# Altium footprint library MainPcblib.PcbLib: 316 footprints (part 16 of 20)
Each footprint in its own frame and in the unit in brackets; x right, y up, seen from the top. Pads: shape width x height; smd on the part's side, far side on the other; paste and mask are expansions set on the pad; w line width, h text height; cw(c..) or ccw(c..) is an arc to the next point about the centre after c.
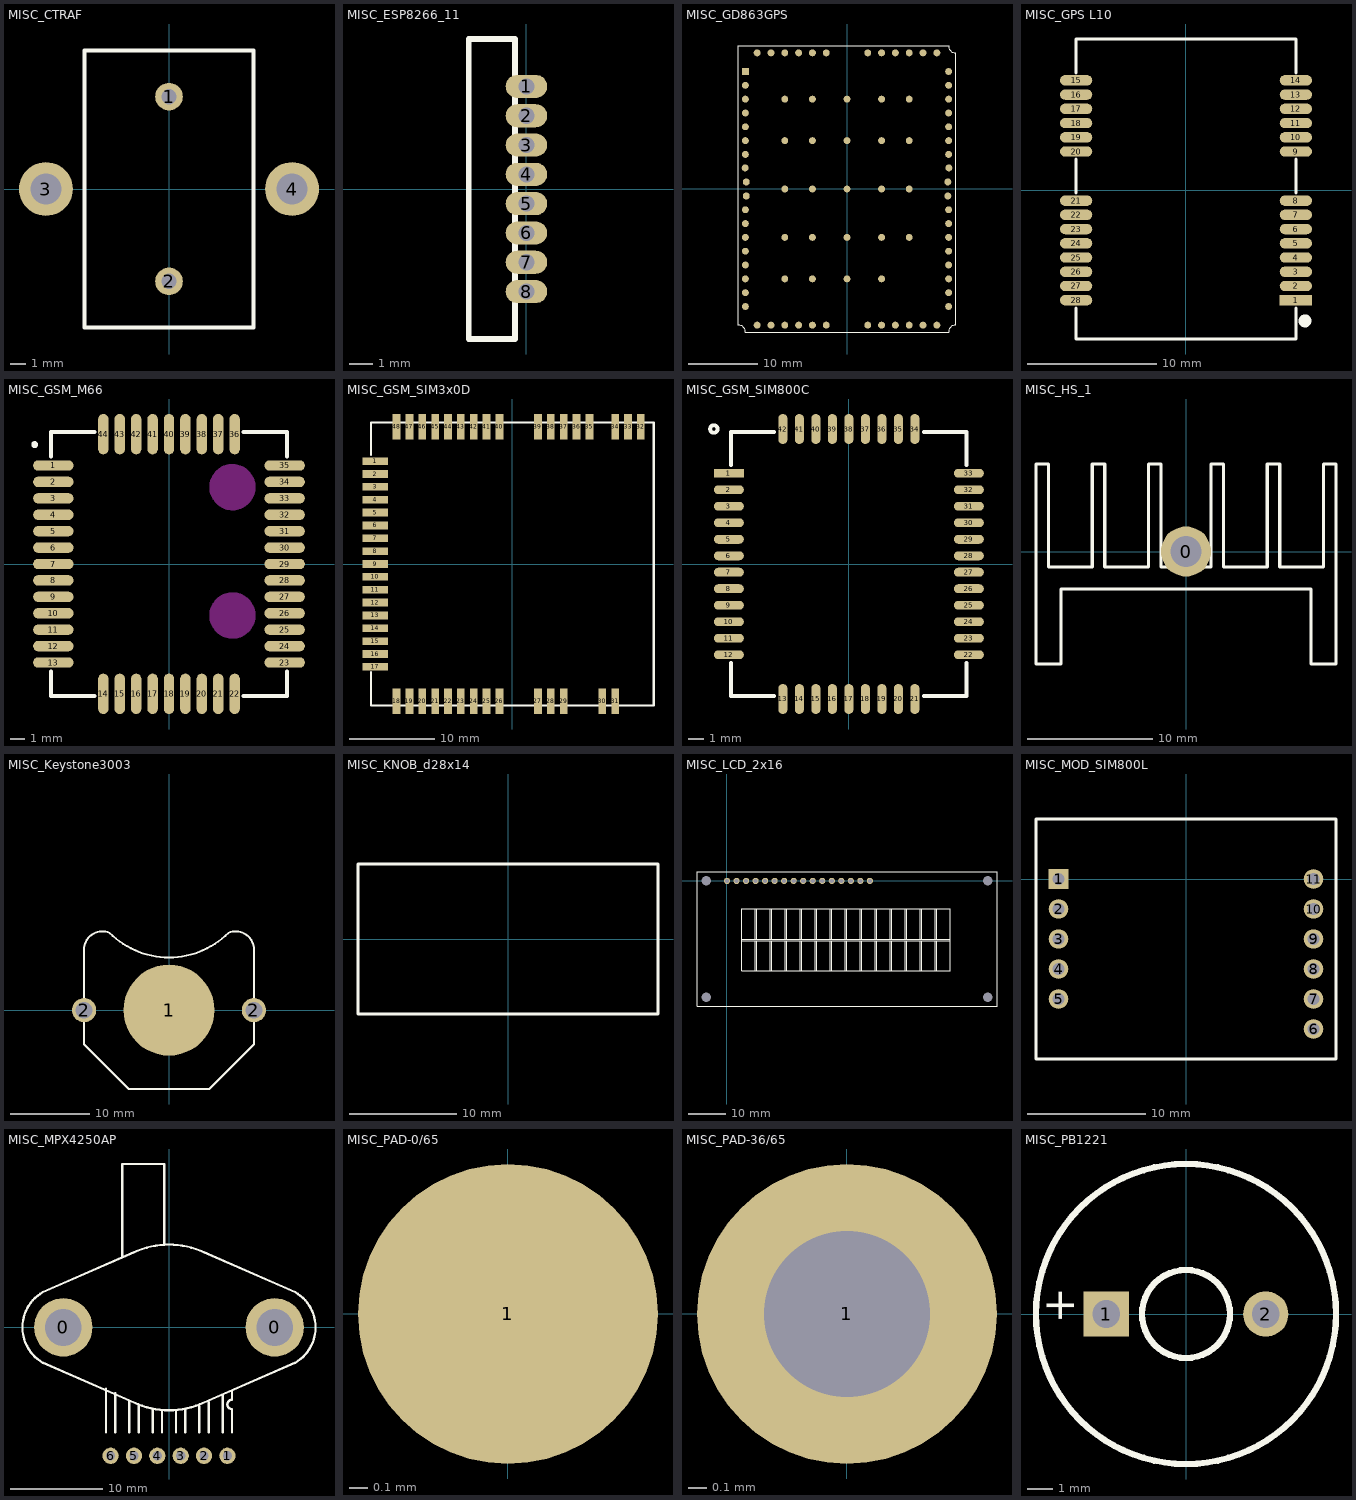
[diagram p15: the footprints below, top view; thin cyan lines are the x and y axes]

## MISC_CTRAF [mm] "Current transformer"
pads (4):
  round 1.8 hole 1: 1(0,6) 2(0,-6)
  round 3.5 hole 2: 3(-8,0) 4(8,0)
Top Overlay:
  lines w0.254: -5.5,-9 -5.5,9 5.5,9 5.5,-9 -5.5,-9

## MISC_ESP8266_11 [mm] "wifi module"
pads (8):
  oval 1.8x1 hole 0.7: 1(0,4.445) 2(0,3.175) 3(0,1.905) 4(0,0.635) 5(0,-0.635) 6(0,-1.905) 7(0,-3.175) 8(0,-4.445)
Top Overlay:
  lines w0.254: -1.5,-6.5 -0.5,-6.5 -0.5,6.5 -2.5,6.5 -2.5,-6.5 -1,-6.5

## MISC_GD863GPS [mm]
pads (84):
  rect 1x1 smd: 1(-14.748,16.985)
  round 1 smd: 2(-14.748,14.985) 3(-14.748,12.985) 4(-14.748,10.985) 5(-14.748,8.985) 6(-14.748,6.985) 7(-14.748,4.985) 8(-14.78,3.033) 9(-14.748,-3.015) 10(-14.748,-5.015) 11(-14.748,-7.015) 12(-14.748,-9.015) 13(-14.748,-11.015) 14(-14.748,-13.015) 15(-14.748,-15.015) 16(-14.748,-17.015) 17(-13.048,-19.715) 18(-11.048,-19.715) 19(-9.048,-19.715) 20(-7.048,-19.715) 21(-5.048,-19.715) 22(-3.048,-19.715) 23(2.952,-19.715) 24(4.952,-19.715) 25(6.952,-19.715) 26(8.952,-19.715) 27(10.952,-19.715) 28(12.952,-19.715) 29(14.652,-17.015) 30(14.652,-15.015) 31(14.652,-13.015) 32(14.652,-11.015) 33(14.652,-9.015) 34(14.652,-7.015) 35(14.652,-5.015) 36(14.652,-3.015) 37(14.684,3.033) 38(14.652,4.985) 39(14.652,6.985) 40(14.652,8.985) 41(14.652,10.985) 42(14.652,12.985) 43(14.652,14.985) 44(14.652,16.985) 45(12.952,19.685) 46(10.952,19.685) 47(8.952,19.685) 48(6.952,19.685) 49(4.952,19.685) 50(2.952,19.685) 51(-3.048,19.685) 52(-5.048,19.685) 53(-7.048,19.685) 54(-9.048,19.685) 55(-11.048,19.685) 56(-13.048,19.685) 57(-9.048,12.985) 58(-9.048,6.985) 59(-9.048,-0.015) 60(-9.048,-7.015) 61(-9.048,-13.015) 62(-5.048,12.985) 63(-5.048,6.985) 64(-5.048,-0.015) 65(-5.048,-7.015) 66(-5.048,-13.015) 67(-0.048,12.985) 68(-0.048,6.985) 69(-0.048,-0.015) 70(-0.048,-7.015) 71(-0.048,-13.015) 72(4.952,12.985) 73(4.952,6.985) 74(4.952,-0.015) 75(4.952,-7.015) 76(4.952,-13.015) 77(8.952,12.985) 78(8.952,6.985) 79(8.952,-0.015) 80(8.952,-7.015) 81(-14.621,1.008) 82(-14.621,-1.024) 83(14.538,-1.024) 84(14.538,1.008)
Top Overlay:
  lines w0.076: -15.748,-19.715 cw(c-15.748,-20.715) -14.748,-20.715 14.652,-20.715 cw(c15.652,-20.715) 15.652,-19.715 15.652,19.685 cw(c15.652,20.685) 14.652,20.685 -15.748,20.685 -15.748,-19.715

## MISC_GPS L10 [mm] "Quectel L10"
height 3
pads (28):
  rect 2.5x0.8 smd: 1(8.5,-8.5)
  oval 2.5x0.8 smd: 2(8.5,-7.4) 3(8.5,-6.3) 4(8.5,-5.2) 5(8.5,-4.1) 6(8.5,-3) 7(8.5,-1.9) 8(8.5,-0.8) 9(8.5,3) 10(8.5,4.1) 11(8.5,5.2) 12(8.5,6.3) 13(8.5,7.4) 14(8.5,8.5) 15(-8.5,8.5) 16(-8.5,7.4) 17(-8.5,6.3) 18(-8.5,5.2) 19(-8.5,4.1) 20(-8.5,3) 21(-8.5,-0.8) 22(-8.5,-1.9) 23(-8.5,-3) 24(-8.5,-4.1) 25(-8.5,-5.2) 26(-8.5,-6.3) 27(-8.5,-7.4) 28(-8.5,-8.5)
Top Overlay:
  circle w0.5: c9.2,-10.1 r0.25
  lines w0.254: -8.5,-9.1 -8.5,-11.5 8.5,-11.5 8.5,-9.1 ; -8.5,-0.2 -8.5,2.4 ; -8.5,9.1 -8.5,11.7 8.5,11.7 8.5,9.1 ; 8.5,-0.2 8.5,2.4

## MISC_GSM_M66 [mm] "Quectel M66 GSM Module"
height 2.3
pads (44):
  oval 2.7x0.7 smd: 1(-7.75,6.6) 2(-7.75,5.5) 3(-7.75,4.4) 4(-7.75,3.3) 5(-7.75,2.2) 6(-7.75,1.1) 7(-7.75,0) 8(-7.75,-1.1) 9(-7.75,-2.2) 10(-7.75,-3.3) 11(-7.75,-4.4) 12(-7.75,-5.5) 13(-7.75,-6.6) 23(7.75,-6.6) 24(7.75,-5.5) 25(7.75,-4.4) 26(7.75,-3.3) 27(7.75,-2.2) 28(7.75,-1.1) 29(7.75,0) 30(7.75,1.1) 31(7.75,2.2) 32(7.75,3.3) 33(7.75,4.4) 34(7.75,5.5) 35(7.75,6.6)
  oval 0.7x2.7 smd: 14(-4.4,-8.7) 15(-3.3,-8.7) 16(-2.2,-8.7) 17(-1.1,-8.7) 18(0,-8.7) 19(1.1,-8.7) 20(2.2,-8.7) 21(3.3,-8.7) 22(4.4,-8.7) 36(4.4,8.7) 37(3.3,8.7) 38(2.2,8.7) 39(1.1,8.7) 40(0,8.7) 41(-1.1,8.7) 42(-2.2,8.7) 43(-3.3,8.7) 44(-4.4,8.7)
Top Overlay:
  circle w0.254: c-9,8 r0.1
  lines w0.254: -7.9,-7.2 -7.9,-8.85 -5,-8.85 ; -7.9,7.2 -7.9,8.85 -5,8.85 ; 5,-8.85 7.9,-8.85 7.9,-7.2 ; 5,8.85 7.9,8.85 7.9,7.2
Keep-Out Layer:
  circle w1.55: c4.25,-3.45 r0.775
  circle w1.55: c4.25,5.15 r0.775

## MISC_GSM_SIM3x0D [mm] "sim.com SIM300D/340D"
height 3
pads (48):
  rect 3x0.9 smd: 1(-16,12) 2(-16,10.5) 3(-16,9) 4(-16,7.5) 5(-16,6) 6(-16,4.5) 7(-16,3) 8(-16,1.5) 9(-16,0) 10(-16,-1.5) 11(-16,-3) 12(-16,-4.5) 13(-16,-6) 14(-16,-7.5) 15(-16,-9) 16(-16,-10.5) 17(-16,-12)
  rect 0.9x3 smd: 18(-13.5,-16) 19(-12,-16) 20(-10.5,-16) 21(-9,-16) 22(-7.5,-16) 23(-6,-16) 24(-4.5,-16) 25(-3,-16) 26(-1.5,-16) 27(3,-16) 28(4.5,-16) 29(6,-16) 30(10.5,-16) 31(12,-16) 32(15,16) 33(13.5,16) 34(12,16) 35(9,16) 36(7.5,16) 37(6,16) 38(4.5,16) 39(3,16) 40(-1.5,16) 41(-3,16) 42(-4.5,16) 43(-6,16) 44(-7.5,16) 45(-9,16) 46(-10.5,16) 47(-12,16) 48(-13.5,16)
Top Overlay:
  lines w0.254: -16.5,-12.6 -16.5,-16.5 -14.8,-16.5 16.5,-16.5 16.5,16.5 -16.5,16.5 -16.5,12.7

## MISC_GSM_SIM800C [mm] "Quad-band GSM module"
pads (42):
  rect 2x0.6 smd: 1(-8,6.05)
  oval 2x0.6 smd: 2(-8,4.95) 3(-8,3.85) 4(-8,2.75) 5(-8,1.65) 6(-8,0.55) 7(-8,-0.55) 8(-8,-1.65) 9(-8,-2.75) 10(-8,-3.85) 11(-8,-4.95) 12(-8,-6.05) 22(8,-6.05) 23(8,-4.95) 24(8,-3.85) 25(8,-2.75) 26(8,-1.65) 27(8,-0.55) 28(8,0.55) 29(8,1.65) 30(8,2.75) 31(8,3.85) 32(8,4.95) 33(8,6.05)
  oval 0.6x2 smd: 13(-4.4,-9) 14(-3.3,-9) 15(-2.2,-9) 16(-1.1,-9) 17(0,-9) 18(1.1,-9) 19(2.2,-9) 20(3.3,-9) 21(4.4,-9) 34(4.4,9) 35(3.3,9) 36(2.2,9) 37(1.1,9) 38(0,9) 39(-1.1,9) 40(-2.2,9) 41(-3.3,9) 42(-4.4,9)
Top Overlay:
  circle w0.254: c-9,9 r0.25
  lines w0.254: -7.85,-6.6 -7.85,-8.8 -5,-8.8 ; -7.85,6.6 -7.85,8.8 -5,8.8 ; 5,-8.8 7.85,-8.8 7.85,-6.6 ; 5,8.8 7.85,8.8 7.85,6.6

## MISC_HS_1 [mm] "Heatsink - unknow - electroninvest"
height 25.4
pads (1):
  round 4 hole 2.5: 0(0,0)
Top Overlay:
  lines w0.254: -12,-9 -10,-9 -10,-3 10,-3 10,-9 12,-9 12,7 11,7 11,-1.25 7.5,-1.25 7.5,7 6.5,7 6.5,-1.25 3,-1.25 3,7 2,7 2,-1.25 -2,-1.25 -2,7 -3,7 -3,-1.25 -6.5,-1.25 -6.5,7 -7.5,7 -7.5,-1.25 -11,-1.25 -11,7 -12,7 -12,-9

## MISC_Keystone3003 [mil] "Holder for a CR2032"
height 157.48
pads (3):
  round 450 smd: 1(0,0)
  round 120 hole 83: 2(-420,0) 2(420,0)
Top Overlay:
  lines w9.84: -420,300 -420,0 -420,-170 -200,-390 -150,-390 -140,-390 0,-390 150,-390 200,-390 420,-170 420,0 420,300
  lines w10: -420,300 cw(c-330,300) -294.55,382.72 ccw(c0,677.27) 294.55,382.72 cw(c330,300) 420,300

## MISC_KNOB_d28x14 [mm]
Top Overlay:
  lines w0.254: -14,-7 14,-7 14,7 -14,7 -14,-7

## MISC_LCD_2x16 [mil] "LCD 2x16"
height 393.7
pads (20):
  round 65 hole 44: 1(0,0) 2(100,0) 3(200,0) 4(300,0) 5(400,0) 6(500,0) 7(600,0) 8(700,0) 9(800,0) 10(900,0) 11(1000,0) 12(1100,0) 13(1200,0) 14(1300,0) 15(1400,0) 16(1500,0)
  round 0 hole 98.43: Hole(-216.54,-1220.47) Hole(-216.54,0) Hole(2736.22,-1220.47) Hole(2736.22,0)
Top Overlay:
  lines w9.84: 157.48,-629.92 2342.52,-629.92 ; 157.48,-610.24 2342.52,-610.24 ; 295.28,-944.88 295.28,-629.92 ; 295.28,-610.24 295.28,-295.28 ; 314.96,-944.88 314.96,-629.92 ; 314.96,-610.24 314.96,-295.28 ; 452.76,-944.88 452.76,-629.92 ; 452.76,-610.24 452.76,-295.28 ; 472.44,-944.88 472.44,-629.92 ; 472.44,-610.24 472.44,-295.28 ; 610.24,-944.88 610.24,-629.92 ; 610.24,-610.24 610.24,-295.28 ; 629.92,-944.88 629.92,-629.92 ; 629.92,-610.24 629.92,-295.28 ; 767.72,-944.88 767.72,-629.92 ; 767.72,-610.24 767.72,-295.28 ; 787.4,-944.88 787.4,-629.92 ; 787.4,-610.24 787.4,-295.28 ; 925.2,-944.88 925.2,-629.92 ; 925.2,-610.24 925.2,-295.28 ; 944.88,-944.88 944.88,-629.92 ; 944.88,-610.24 944.88,-295.28 ; 1082.68,-944.88 1082.68,-629.92 ; 1082.68,-610.24 1082.68,-295.28 ; 1102.36,-944.88 1102.36,-629.92 ; 1102.36,-610.24 1102.36,-295.28 ; 1240.16,-944.88 1240.16,-629.92 ; 1240.16,-610.24 1240.16,-295.28 ; 1259.84,-944.88 1259.84,-629.92 ; 1259.84,-610.24 1259.84,-295.28 ; 1397.64,-944.88 1397.64,-629.92 ; 1397.64,-610.24 1397.64,-295.28 ; 1417.32,-944.88 1417.32,-629.92 ; 1417.32,-610.24 1417.32,-295.28 ; 1555.12,-944.88 1555.12,-629.92 ; 1555.12,-610.24 1555.12,-295.28 ; 1574.8,-944.88 1574.8,-629.92 ; 1574.8,-610.24 1574.8,-295.28 ; 1712.6,-944.88 1712.6,-629.92 ; 1712.6,-610.24 1712.6,-295.28 ; 1732.28,-944.88 1732.28,-629.92 ; 1732.28,-610.24 1732.28,-295.28 ; 1870.08,-944.88 1870.08,-629.92 ; 1870.08,-610.24 1870.08,-295.28 ; 1889.76,-944.88 1889.76,-629.92 ; 1889.76,-610.24 1889.76,-295.28 ; 2027.56,-944.88 2027.56,-629.92 ; 2027.56,-610.24 2027.56,-295.28 ; 2047.24,-944.88 2047.24,-629.92 ; 2047.24,-610.24 2047.24,-295.28 ; 2185.04,-944.88 2185.04,-629.92 ; 2185.04,-610.24 2185.04,-295.28 ; 2204.72,-944.88 2204.72,-629.92 ; 2204.72,-610.24 2204.72,-295.28 ; 2342.52,-629.92 2342.52,-944.88 157.48,-944.88 157.48,-295.28 2342.52,-295.28 2342.52,-629.92 ; -314.96,-1318.9 2834.65,-1318.9 2834.65,98.43 -314.96,98.43 -314.96,-1318.9

## MISC_MOD_SIM800L [mil] "SIM800L GSM Module"
pads (11):
  rect 65x65 hole 39.37: 1(-425,0)
  round 65 hole 39.37: 2(-425,-100) 3(-425,-200) 4(-425,-300) 5(-425,-400) 6(425,-500) 7(425,-400) 8(425,-300) 9(425,-200) 10(425,-100) 11(425,0)
Top Overlay:
  lines w10: -500,-600 -500,200 500,200 500,-600 -500,-600

## MISC_MPX4250AP [mil] "MPX4250AP pressure sensor"
height 314.96
pads (8):
  round 250 hole 157.48: 0(-452.76,0) 0(452.76,0)
  round 70 hole 39.37: 1(250,-550) 2(150,-550) 3(50,-550) 4(-50,-550) 5(-150,-550) 6(-250,-550)
Top Overlay:
  lines w10: -270,-450 -270,-263.23 ; -230,-450 -230,-282.17 -229.89,-282.06 ; -200,300 -200,700 -20,700 -20,360 ; -170,-450 -170,-313.43 ; -130,-450 -130,-330 ; -70,-450 -70,-350 ; -30,-450 -30,-360 ; -5,-355 5,-355 ; -5,355 5,355 ; 30,-450 30,-360 ; 70,-450 70,-350 ; 130,-450 130,-340 ; 170,-450 170,-320 ; 230,-450 230,-290 ; 270,-450 270,-350 cw(c270,-330) 270,-310 270,-270 ; -540.26,-151.55 cw(c-452.76,0) -540.26,151.55 -150.03,321.74 cw(c0,0) 150.03,321.74 540.26,151.55 cw(c452.76,0) 540.26,-151.55 150.03,-321.74 cw(c0,0) -150.03,-321.74 -540.26,-151.55

## MISC_PAD-0/65 [mil]
pads (1):
  round 65 smd: 1(0,0)

## MISC_PAD-36/65 [mil]
pads (1):
  round 65 hole 36: 1(0,0)

## MISC_PB1221 [mm] "Buzzer"
height 8
pads (2):
  rect 1.8x1.8 hole 1.1: 1(-3.175,0)
  round 1.8 hole 1.1: 2(3.175,0)
Top Overlay:
  circle w0.254: c0,0 r5.969
  circle w0.254: c0,0 r1.75
  text "+" at -4.445,-0.381 h1.27